# EAGLE library part ADS820U (library burr-brown)
10-Bit, 20 MSPS ADC
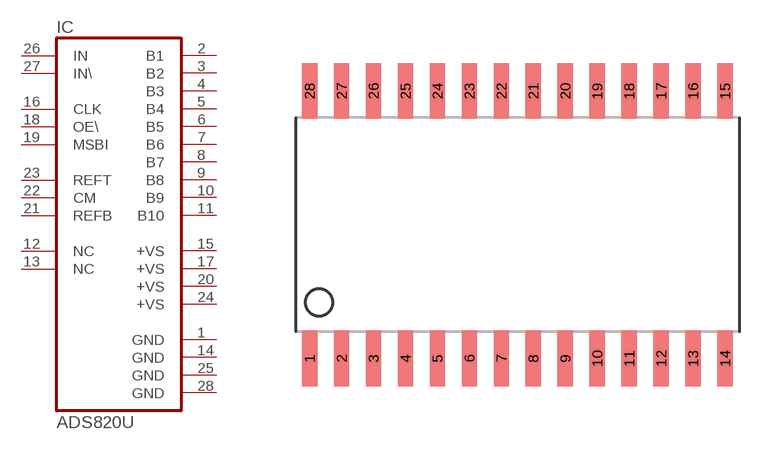
[diagram p74: symbol with the pads of SO28-3; footprint SO28-3]

Designator prefix IC

## ADS820U  [SO28-3]
1  GND  pwr
2  B1  out
3  B2  out
4  B3  out
5  B4  out
6  B5  out
7  B6  out
8  B7  out
9  B8  out
10  B9  out
11  B10  out
12  NC  nc
13  NC  nc
14  GND  pwr
15  +VS  pwr
16  CLK  in
17  +VS  pwr
18  OE\  in
19  MSBI  in
20  +VS  pwr
21  REFB  in
22  CM  in
23  REFT  in
24  +VS  pwr
25  GND  pwr
26  IN  in
27  IN\  in
28  GND  pwr

## Footprint SO28-3 (pad centres in mm)
smd 0.61 x 2.21: 1 -8.255,-5.315; 2 -6.985,-5.315; 3 -5.715,-5.315; 4 -4.445,-5.315; 5 -3.175,-5.315; 6 -1.905,-5.315; 7 -0.635,-5.315; 8 0.635,-5.315; 9 1.905,-5.315; 10 3.175,-5.315; 11 4.445,-5.315; 12 5.715,-5.315; 13 6.985,-5.315; 14 8.255,-5.315; 15 8.255,5.315; 16 6.985,5.315; 17 5.715,5.315; 18 4.445,5.315; 19 3.175,5.315; 20 1.905,5.315; 21 0.635,5.315; 22 -0.635,5.315; 23 -1.905,5.315; 24 -3.175,5.315; 25 -4.445,5.315; 26 -5.715,5.315; 27 -6.985,5.315; 28 -8.255,5.315